# Altium schematic symbol library AMS1117-3.3_C3472221_AMS1117-3.3_C347222.schdoc.SCHLIB: 1 symbol
Pins are listed as number, name and electrical type; pins without a type are passive.

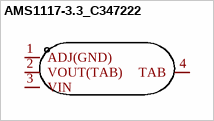
[diagram p0: symbol AMS1117-3.3_C347222]

## AMS1117-3.3_C347222
designator U??  (value not drawn)
Add into BOM: yes; Maximum Input Voltage: 18V; Output Voltage: 3.3V; Output Current: 1A; Power Supply Rejection Ratio (PSRR): 60dB@(120Hz); Dropout Voltage: 1.3V@(1A); Number of Outputs: 1; Symbol: AMS1117-3.3_C347222; Device: AMS1117-3.3_C347222; Supplier: LCSC; Supplier Part: C347222; Manufacturer Part: AMS1117-3.3; JLCPCB Part Class: Extended Part; Supplier Footprint: SOT-223; Datasheet: https://atta.szlcsc.com/upload/public/pdf/source/20231109/155D79A26D9DB04352555A58D5969DC8.pdf; Convert to PCB: yes
footprint SOT-223-4_L6.5-W3.5-P2.30-LS7.0-BR
pins: 1 ADJ(GND), 2 VOUT(TAB), 3 VIN, 4 TAB